# Altium integrated library Actel RTAX-S-SL.IntLib: 132 symbols (part 33 of 41)
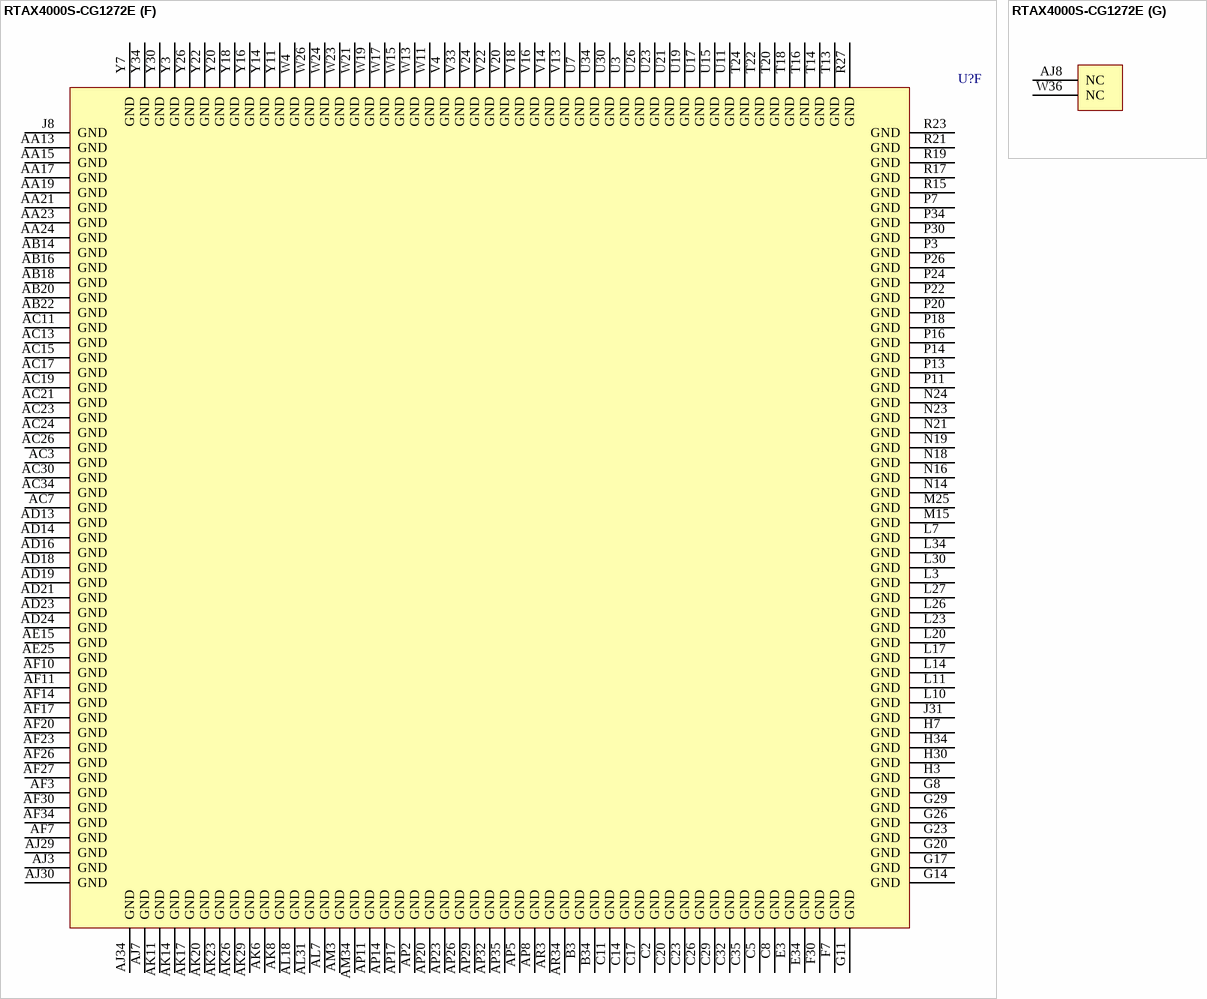
[diagram p411: symbol RTAX4000S-CG1272E]

## RTAX4000S-CG1272E
designator U?
RTAX-S RadTolerant FPGA, 4 Million Equivalent System Gates, 1272-Pin CCGA, Speed Grade Standard, E-Flow (Space Level Flow); Published: 11-Dec-2009; DatasheetVersion: v5.4, May-2009; PackageVersion: ver11.2, Nov-2009; PackageReference: CG1272; Publisher: Altium Limited; PackageDescription: 1272-Pin Ceramic Column Grid Array 1 mm Pitch; ComponentLink1Description: RTAX-S/SL RadTolerant Datasheet; ComponentLink1URL: http://www.actel.com/documents/RTAXS_DS.pdf; ComponentLink2Description: Package Mechanical Drawings; ComponentLink2URL: http://www.actel.com/documents/PckgMechDrwngs.pdf; ComponentLink3Description: RTAX-S/SL RadTolerant Documents; ComponentLink3URL: http://www.actel.com/products/milaero/rtaxs/docs.aspx; ComponentLink4Description: Actel.com Home; ComponentLink4URL: http://www.actel.com/
footprint CG1272 (CGA, 1272-Leads, Body 37.5x37.5mm, Pitch 1mm)
part A pins: A4 IO11PB0F0 (io), A5 IO11NB0F0 (io), A6 IO13PB0F1 (io), A7 IO13NB0F1 (io), A8 IO25NB0F2 (io), A9 IO25PB0F2 (io), A10 IO37PB0F3 (io), A11 IO37NB0F3 (io), A12 IO33PB0F3 (io), A13 IO33NB0F3 (io), A14 IO43NB0F4 (io), A15 IO43PB0F4 (io), A16 IO45PB0F4 (io), A17 IO45NB0F4 (io), A20 IO59PB1F6 (io), A21 IO59NB1F6 (io), A22 IO61NB1F7 (io), A23 IO61PB1F7 (io), A24 IO73PB1F8 (io), A25 IO73NB1F8 (io), A26 IO69PB1F7 (io), A27 IO69NB1F7 (io), A28 IO79NB1F8 (io), A29 IO79PB1F8 (io), A30 IO91PB1F9 (io), A31 IO91NB1F9 (io), A32 IO85PB1F9 (io), A33 IO85NB1F9 (io), B4 IO19NB0F1 (io), B6 IO05PB0F0 (io), B7 IO05NB0F0 (io), B9 IO23PB0F2 (io), B10 IO23NB0F2 (io), B12 IO29PB0F2 (io), B13 IO29NB0F2 (io), B15 IO39PB0F3 (io), B16 IO39NB0F3 (io), B18 IO49PB0F4 (io), B19 IO55NB1F6 (io), B21 IO65PB1F7 (io), B22 IO65NB1F7 (io), B24 IO77PB1F8 (io), B25 IO77NB1F8 (io), B27 IO81PB1F8 (io), B28 IO81NB1F8 (io), B30 IO99PB1F10 (io), B31 IO99NB1F10 (io), B33 IO93PB1F9 (io), C4 IO19PB0F1 (io), C6 IO07PB0F0 (io), C7 IO07NB0F0 (io), C9 IO30PB0F2 (io), C10 IO30NB0F2 (io), C12 IO21PB0F2 (io), C13 IO21NB0F2 (io), C15 IO35NB0F3 (io), C18 IO49NB0F4 (io), C19 IO55PB1F6 (io), C22 IO67PB1F7 (io), C24 IO83PB1F9 (io), C25 IO83NB1F9 (io), C27 IO74PB1F8 (io), C28 IO74NB1F8 (io), C30 IO97PB1F10 (io), C31 IO97NB1F10 (io), C33 IO93NB1F9 (io), D5 IO12PB0F1 (io), D6 IO12NB0F1 (io), D7 IO01PB0F0 (io), D8 IO01NB0F0 (io), D9 IO00PB0F0 (io), D10 IO09NB0F0 (io), D11 IO15PB0F1 (io), D12 IO15NB0F1 (io), D13 IO27PB0F2 (io), D14 IO27NB0F2 (io), D15 IO35PB0F3 (io), D17 IO51PB0F4/HCLKBP (io), D18 IO51NB0F4/HCLKBN (io), D19 IO53PB1F6/HCLKDP (io), D20 IO53NB1F6/HCLKDN (io), D22 IO67NB1F7 (io), D23 IO75PB1F8 (io), D24 IO75NB1F8 (io), D25 IO89PB1F9 (io), D26 IO89NB1F9 (io), D27 IO95PB1F10 (io), D28 IO102NB1F10 (io), D29 IO103PB1F10 (io), D30 IO103NB1F10 (io), D31 IO62PB1F7 (io), D32 IO62NB1F7 (io), E7 IO03NB0F0 (io), E8 IO03PB0F0 (io), E9 IO00NB0F0 (io), E10 IO09PB0F0 (io), E11 IO17PB0F1 (io), E12 IO17NB0F1 (io), E14 IO31PB0F2 (io), E15 IO31NB0F2 (io), E16 IO41NB0F3 (io), E17 IO47PB0F4 (io), E18 IO47NB0F4 (io), E19 IO57PB1F6 (io), E20 IO57NB1F6 (io), E21 IO63PB1F7 (io), E22 IO71PB1F7 (io), E23 IO71NB1F7 (io), E25 IO87PB1F9 (io), E26 IO87NB1F9 (io), E27 IO95NB1F10 (io), E28 IO102PB1F10 (io), E29 IO101NB1F10 (io), E30 IO101PB1F10 (io), E31 IO90NB1F9 (io), E32 IO90PB1F9 (io), F9 IO04NB0F0 (io), F10 IO08NB0F0 (io), F12 IO16NB0F1 (io), F13 IO26PB0F2 (io), F15 IO34PB0F3 (io), F16 IO41PB0F3 (io), F21 IO63NB1F7 (io), F22 IO70NB1F7 (io), F24 IO78NB1F8 (io), F25 IO86PB1F9 (io), F27 IO94PB1F10 (io), F28 IO98NB1F10 (io), G9 IO04PB0F0 (io), G10 IO08PB0F0 (io), G12 IO16PB0F1 (io), G13 IO26NB0F2 (io), G15 IO34NB0F3 (io), G16 IO44NB0F4 (io), G18 IO48NB0F4 (io), G19 IO54PB1F6 (io), G21 IO58PB1F6 (io), G22 IO70PB1F7 (io), G24 IO78PB1F8 (io), G25 IO86NB1F9 (io), G27 IO94NB1F10 (io), G28 IO98PB1F10 (io), H10 IO10PB0F0 (io), H11 IO10NB0F0 (io), H12 IO20PB0F1 (io), H13 IO20NB0F1 (io), H14 IO38PB0F3 (io), H15 IO38NB0F3 (io), H16 IO44PB0F4 (io), H17 IO42NB0F4 (io), H18 IO48PB0F4 (io), H19 IO54NB1F6 (io), H20 IO60NB1F7 (io), H21 IO58NB1F6 (io), H22 IO66PB1F7 (io), H23 IO66NB1F7 (io), H24 IO82PB1F9 (io), H25 IO82NB1F9 (io), H26 IO92PB1F9 (io), H27 IO92NB1F9 (io), J9 IO02PB0F0 (io), J10 IO02NB0F0 (io), J11 IO14PB0F1 (io), J12 IO14NB0F1 (io), J13 IO24PB0F2 (io), J14 IO24NB0F2 (io), J15 IO36PB0F3 (io), J16 IO36NB0F3 (io), J17 IO42PB0F4 (io), J18 IO50NB0F4/HCLKAN (io), J19 IO52PB1F6/HCLKCP (io), J20 IO60PB1F7 (io), J21 IO64PB1F7 (io), J22 IO64NB1F7 (io), J23 IO76PB1F8 (io), J24 IO76NB1F8 (io), J25 IO88PB1F9 (io), J26 IO88NB1F9 (io), J27 IO100PB1F10 (io), J28 IO100NB1F10 (io), K12 IO18PB0F1 (io), K13 IO18NB0F1 (io), K15 IO32NB0F2 (io), K16 IO32PB0F2 (io), K18 IO50PB0F4/HCLKAP (io), K19 IO52NB1F6/HCLKCN (io), K21 IO68PB1F7 (io), K22 IO68NB1F7 (io), K24 IO84PB1F9 (io), K25 IO84NB1F9 (io), L12 IO06PB0F0 (io), L13 IO06NB0F0 (io), L15 IO28PB0F2 (io), L16 IO28NB0F2 (io), L21 IO72PB1F8 (io), L22 IO72NB1F8 (io), L24 IO96NB1F10 (io), L25 IO96PB1F10 (io), M13 IO22PB0F2 (io), M14 IO22NB0F2 (io), M16 IO40NB0F3 (io), M17 IO40PB0F3 (io), M18 IO46NB0F4 (io), M19 IO46PB0F4 (io), M20 IO56NB1F6 (io), M21 IO56PB1F6 (io), M23 IO80PB1F8 (io), M24 IO80NB1F8 (io)
part B pins: AA25 IO165PB3F18 (io), AA26 IO165NB3F18 (io), AA27 IO173NB3F19 (io), AA28 IO173PB3F19 (io), AA29 IO169NB3F19 (io), AA30 IO169PB3F19 (io), AA31 IO167PB3F19 (io), AA32 IO167NB3F19 (io), AA33 IO166NB3F19 (io), AA34 IO168NB3F19 (io), AA35 IO168PB3F19 (io), AA36 IO160NB3F18 (io), AB25 IO177NB3F20 (io), AB26 IO177PB3F20 (io), AB28 IO179PB3F20 (io), AB29 IO179NB3F20 (io), AB30 IO171PB3F19 (io), AB31 IO171NB3F19 (io), AB32 IO170NB3F19 (io), AB33 IO170PB3F19 (io), AB34 IO174NB3F19 (io), AB35 IO174PB3F19 (io), AB36 IO164PB3F18 (io), AC25 IO181NB3F20 (io), AC28 IO183PB3F20 (io), AC29 IO183NB3F20 (io), AC32 IO178NB3F20 (io), AC33 IO178PB3F20 (io), AC36 IO164NB3F18 (io), AD25 IO181PB3F20 (io), AD26 IO185PB3F21 (io), AD27 IO193NB3F22 (io), AD28 IO193PB3F22 (io), AD29 IO187PB3F21 (io), AD30 IO187NB3F21 (io), AD31 IO189PB3F21 (io), AD32 IO189NB3F21 (io), AD33 IO186PB3F21 (io), AD34 IO184PB3F21 (io), AD35 IO182PB3F20 (io), AD36 IO172PB3F19 (io), AE26 IO185NB3F21 (io), AE27 IO197PB3F22 (io), AE28 IO197NB3F22 (io), AE29 IO195PB3F22 (io), AE30 IO195NB3F22 (io), AE31 IO191PB3F21 (io), AE32 IO191NB3F21 (io), AE33 IO186NB3F21 (io), AE34 IO184NB3F21 (io), AE35 IO182NB3F20 (io), AE36 IO172NB3F19 (io), AF28 IO201PB3F22 (io), AF29 IO201NB3F22 (io), AF32 IO194NB3F22 (io), AF33 IO194PB3F22 (io), AF36 IO176PB3F20 (io), AG28 IO208PB3F23 (io), AG29 IO208NB3F23 (io), AG30 IO203PB3F23 (io), AG31 IO203NB3F23 (io), AG32 IO202NB3F23 (io), AG33 IO202PB3F23 (io), AG34 IO200PB3F22 (io), AG35 IO188PB3F21 (io), AG36 IO176NB3F20 (io), AH30 IO199PB3F22 (io), AH31 IO199NB3F22 (io), AH32 IO209PB3F23 (io), AH33 IO206NB3F23 (io), AH34 IO200NB3F22 (io), AH35 IO188NB3F21 (io), AH36 IO180PB3F20 (io), AJ32 IO209NB3F23 (io), AJ33 IO206PB3F23 (io), AJ36 IO180NB3F20 (io), AK31 IO205PB3F23 (io), AK32 IO205NB3F23 (io), AK33 IO204PB3F23 (io), AK34 IO196NB3F22 (io), AK35 IO190NB3F21 (io), AK36 IO190PB3F21 (io), AL33 IO204NB3F23 (io), AL34 IO196PB3F22 (io), AL35 IO175NB3F20 (io), AL36 IO175PB3F20 (io), AM33 IO198PB3F22 (io), AM36 IO192PB3F21 (io), AN33 IO198NB3F22 (io), AN34 IO207NB3F23 (io), AN35 IO207PB3F23 (io), AN36 IO192NB3F21 (io), D33 IO118PB2F13 (io), D34 IO105PB2F12 (io), D35 IO105NB2F12 (io), D36 IO120PB2F13 (io), E33 IO118NB2F13 (io), E36 IO120NB2F13 (io), F33 IO107PB2F12 (io), F34 IO107NB2F12 (io), F35 IO135NB2F15 (io), F36 IO135PB2F15 (io), G32 IO108PB2F12 (io), G33 IO108NB2F12 (io), G34 IO116PB2F13 (io), G35 IO116NB2F13 (io), G36 IO126PB2F14 (io), H32 IO115NB2F13 (io), H33 IO106NB2F12 (io), H36 IO126NB2F14 (io), J32 IO115PB2F13 (io), J33 IO106PB2F12 (io), J34 IO112PB2F13 (io), J35 IO124PB2F14 (io), J36 IO132PB2F15 (io), K28 IO114NB2F13 (io), K29 IO114PB2F13 (io), K30 IO111PB2F12 (io), K31 IO111NB2F12 (io), K32 IO110PB2F12 (io), K33 IO110NB2F12 (io), K34 IO112NB2F13 (io), K35 IO124NB2F14 (io), K36 IO132NB2F15 (io), L28 IO104PB2F12 (io), L29 IO104NB2F12 (io), L32 IO122PB2F14 (io), L33 IO122NB2F14 (io), L36 IO136PB2F15 (io), M26 IO113PB2F13 (io), M27 IO109PB2F12 (io), M28 IO109NB2F12 (io), M29 IO117NB2F13 (io), M30 IO117PB2F13 (io), M31 IO119PB2F13 (io), M32 IO119NB2F13 (io), M33 IO130PB2F15 (io), M34 IO128PB2F14 (io), M35 IO134PB2F15 (io), M36 IO136NB2F15 (io), N25 IO125PB2F14 (io), N26 IO113NB2F13 (io), N27 IO121PB2F14 (io), N28 IO121NB2F14 (io), N29 IO123PB2F14 (io), N30 IO123NB2F14 (io), N31 IO127PB2F14 (io), N32 IO127NB2F14 (io), N33 IO130NB2F15 (io), N34 IO128NB2F14 (io), N35 IO134NB2F15 (io), N36 IO140PB2F16 (io), P25 IO125NB2F14 (io), P28 IO129PB2F14 (io), P29 IO129NB2F14 (io), P32 IO138PB2F15 (io), P33 IO138NB2F15 (io), P36 IO140NB2F16 (io), R25 IO131PB2F15 (io), R26 IO131NB2F15 (io), R28 IO133PB2F15 (io), R29 IO133NB2F15 (io), R30 IO139PB2F16 (io), R31 IO139NB2F16 (io), R32 IO146PB2F16 (io), R33 IO146NB2F16 (io), R34 IO142PB2F16 (io), R35 IO142NB2F16 (io), R36 IO148PB2F17 (io), T25 IO137PB2F15 (io), T26 IO137NB2F15 (io), T27 IO141PB2F16 (io), T28 IO141NB2F16 (io), T29 IO145PB2F16 (io), T30 IO145NB2F16 (io), T31 IO143PB2F16 (io), T32 IO143NB2F16 (io), T33 IO150PB2F17 (io), T34 IO144PB2F16 (io), T35 IO144NB2F16 (io), T36 IO148NB2F17 (io), U25 IO147PB2F16 (io), U28 IO149PB2F17 (io), U29 IO149NB2F17 (io), U32 IO154PB2F17 (io), U33 IO150NB2F17 (io), U36 IO152PB2F17 (io), V25 IO147NB2F16 (io), V27 IO155NB2F17 (io), V28 IO155PB2F17 (io), V29 IO157PB3F18 (io), V30 IO153PB2F17 (io), V31 IO153NB2F17 (io), V32 IO154NB2F17 (io), V34 IO156PB2F17 (io), V35 IO158PB3F18 (io), V36 IO152NB2F17 (io), W25 IO151NB2F17 (io), W27 IO161NB3F18 (io), W28 IO161PB3F18 (io), W29 IO157NB3F18 (io), W30 IO159NB3F18 (io), W31 IO159PB3F18 (io), W32 IO162PB3F18 (io), W34 IO156NB2F17 (io), W35 IO158NB3F18 (io), Y25 IO151PB2F17 (io), Y28 IO163NB3F18 (io), Y29 IO163PB3F18 (io), Y32 IO162NB3F18 (io), Y33 IO166PB3F19 (io), Y36 IO160PB3F18 (io)
part C pins: AE13 IO282NB5F32 (io), AE14 IO282PB5F32 (io), AE16 IO266PB5F30 (io), AE17 IO266NB5F30 (io), AE18 IO256NB4F28 (io), AE19 IO256PB4F28 (io), AE20 IO250PB4F27 (io), AE21 IO250NB4F27 (io), AE23 IO232NB4F26 (io), AE24 IO232PB4F26 (io), AF12 IO296PB5F33 (io), AF13 IO294PB5F33 (io), AF15 IO270PB5F30 (io), AF16 IO270NB5F30 (io), AF21 IO238NB4F26 (io), AF22 IO238PB4F26 (io), AF24 IO216NB4F24 (io), AF25 IO216PB4F24 (io), AG8 IO312PB5F34 (io), AG9 IO312NB5F34 (io), AG12 IO296NB5F33 (io), AG13 IO294NB5F33 (io), AG15 IO278NB5F31 (io), AG16 IO278PB5F31 (io), AG18 IO262NB5F30/CLKGN (io), AG19 IO260PB4F28/CLKEP (io), AG21 IO242NB4F27 (io), AG22 IO242PB4F27 (io), AG24 IO228PB4F25 (io), AG25 IO228NB4F25 (io), AH9 IO310NB5F34 (io), AH10 IO310PB5F34 (io), AH11 IO302NB5F34 (io), AH12 IO302PB5F34 (io), AH13 IO290NB5F32 (io), AH14 IO290PB5F32 (io), AH15 IO274NB5F31 (io), AH16 IO274PB5F31 (io), AH17 IO272NB5F31 (io), AH18 IO262PB5F30/CLKGP (io), AH19 IO260NB4F28/CLKEN (io), AH20 IO252NB4F27 (io), AH21 IO246NB4F27 (io), AH22 IO246PB4F27 (io), AH23 IO234NB4F26 (io), AH24 IO234PB4F26 (io), AH25 IO224NB4F25 (io), AH26 IO224PB4F25 (io), AH27 IO212NB4F24 (io), AH28 IO212PB4F24 (io), AJ10 IO304NB5F34 (io), AJ11 IO304PB5F34 (io), AJ12 IO292NB5F32 (io), AJ13 IO292PB5F32 (io), AJ14 IO276NB5F31 (io), AJ15 IO276PB5F31 (io), AJ16 IO268NB5F30 (io), AJ17 IO272PB5F31 (io), AJ18 IO264NB5F30 (io), AJ19 IO258PB4F28 (io), AJ20 IO252PB4F27 (io), AJ21 IO254PB4F28 (io), AJ22 IO248NB4F27 (io), AJ23 IO248PB4F27 (io), AJ24 IO230NB4F25 (io), AJ25 IO230PB4F25 (io), AJ26 IO220NB4F25 (io), AJ27 IO220PB4F25 (io), AK9 IO308NB5F34 (io), AK10 IO306NB5F34 (io), AK12 IO298NB5F33 (io), AK13 IO288PB5F32 (io), AK15 IO280PB5F31 (io), AK16 IO268PB5F30 (io), AK18 IO264PB5F30 (io), AK19 IO258NB4F28 (io), AK21 IO254NB4F28 (io), AK22 IO244NB4F27 (io), AK24 IO236NB4F26 (io), AK25 IO226PB4F25 (io), AK27 IO218PB4F24 (io), AK28 IO214PB4F24 (io), AL9 IO308PB5F34 (io), AL10 IO306PB5F34 (io), AL12 IO298PB5F33 (io), AL13 IO288NB5F32 (io), AL15 IO280NB5F31 (io), AL16 IO273NB5F31 (io), AL21 IO251PB4F27 (io), AL22 IO244PB4F27 (io), AL24 IO236PB4F26 (io), AL25 IO226NB4F25 (io), AL27 IO218NB4F24 (io), AL28 IO214NB4F24 (io), AM7 IO311PB5F34 (io), AM8 IO311NB5F34 (io), AM9 IO286PB5F32 (io), AM10 IO305NB5F34 (io), AM11 IO297NB5F33 (io), AM12 IO297PB5F33 (io), AM14 IO281NB5F32 (io), AM15 IO281PB5F32 (io), AM16 IO273PB5F31 (io), AM17 IO267NB5F30 (io), AM18 IO267PB5F30 (io), AM19 IO257NB4F28 (io), AM20 IO257PB4F28 (io), AM21 IO251NB4F27 (io), AM22 IO243NB4F27 (io), AM23 IO243PB4F27 (io), AM25 IO227NB4F25 (io), AM26 IO227PB4F25 (io), AM27 IO219PB4F24 (io), AM28 IO210NB4F24 (io), AM29 IO213PB4F24 (io), AM30 IO213NB4F24 (io), AN5 IO300NB5F33 (io), AN6 IO300PB5F33 (io), AN7 IO313NB5F34 (io), AN8 IO313PB5F34 (io), AN9 IO286NB5F32 (io), AN10 IO305PB5F34 (io), AN11 IO299NB5F33 (io), AN12 IO299PB5F33 (io), AN13 IO285NB5F32 (io), AN14 IO285PB5F32 (io), AN15 IO277NB5F31 (io), AN17 IO263NB5F30/CLKHN (io), AN18 IO263PB5F30/CLKHP (io), AN19 IO261NB4F28/CLKFN (io), AN20 IO261PB4F28/CLKFP (io), AN22 IO247PB4F27 (io), AN23 IO241NB4F26 (io), AN24 IO241PB4F26 (io), AN25 IO225NB4F25 (io), AN26 IO225PB4F25 (io), AN27 IO219NB4F24 (io), AN28 IO210PB4F24 (io), AN29 IO211NB4F24 (io), AN30 IO211PB4F24 (io), AN31 IO222NB4F25 (io), AN32 IO222PB4F25 (io), AP4 IO295NB5F33 (io), AP6 IO307NB5F34 (io), AP7 IO307PB5F34 (io), AP9 IO284NB5F32 (io), AP10 IO284PB5F32 (io), AP12 IO293NB5F33 (io), AP13 IO293PB5F33 (io), AP15 IO277PB5F31 (io), AP18 IO265PB5F30 (io), AP19 IO259NB4F28 (io), AP22 IO247NB4F27 (io), AP24 IO239NB4F26 (io), AP25 IO239PB4F26 (io), AP27 IO240NB4F26 (io), AP28 IO240PB4F26 (io), AP30 IO217NB4F24 (io), AP31 IO217PB4F24 (io), AP33 IO229PB4F25 (io), AR4 IO295PB5F33 (io), AR6 IO309NB5F34 (io), AR7 IO309PB5F34 (io), AR9 IO291NB5F32 (io), AR10 IO291PB5F32 (io), AR12 IO287NB5F32 (io), AR13 IO287PB5F32 (io), AR15 IO275NB5F31 (io), AR16 IO275PB5F31 (io), AR18 IO265NB5F30 (io), AR19 IO259PB4F28 (io), AR21 IO249NB4F27 (io), AR22 IO249PB4F27 (io), AR24 IO237NB4F26 (io), AR25 IO237PB4F26 (io), AR27 IO233NB4F26 (io), AR28 IO233PB4F26 (io), AR30 IO215NB4F24 (io), AR31 IO215PB4F24 (io), AR33 IO229NB4F25 (io), AT4 IO303NB5F34 (io), AT5 IO303PB5F34 (io), AT6 IO301NB5F33 (io), AT7 IO301PB5F33 (io), AT8 IO289PB5F32 (io), AT9 IO289NB5F32 (io), AT10 IO279NB5F31 (io), AT11 IO279PB5F31 (io), AT12 IO283NB5F32 (io), AT13 IO283PB5F32 (io), AT14 IO271PB5F30 (io), AT15 IO271NB5F30 (io), AT16 IO269NB5F30 (io), AT17 IO269PB5F30 (io), AT20 IO255NB4F28 (io), AT21 IO255PB4F28 (io), AT22 IO253PB4F27 (io), AT23 IO253NB4F27 (io), AT24 IO245NB4F27 (io), AT25 IO245PB4F27 (io), AT26 IO231NB4F25 (io), AT27 IO231PB4F25 (io), AT28 IO235PB4F26 (io), AT29 IO235NB4F26 (io), AT30 IO223NB4F25 (io), AT31 IO223PB4F25 (io), AT32 IO221NB4F25 (io), AT33 IO221PB4F25 (io)
part D pins: AA1 IO358NB6F41 (io), AA2 IO354NB6F40 (io), AA3 IO354PB6F40 (io), AA4 IO360PB6F41 (io), AA5 IO355NB6F40 (io), AA6 IO355PB6F40 (io), AA7 IO353NB6F40 (io), AA8 IO353PB6F40 (io), AA9 IO351NB6F40 (io), AA10 IO351PB6F40 (io), AA11 IO345NB6F39 (io), AA12 IO343NB6F39 (io), AB1 IO358PB6F41 (io), AB2 IO352NB6F40 (io), AB3 IO352PB6F40 (io), AB4 IO356NB6F40 (io), AB5 IO356PB6F40 (io), AB6 IO349NB6F40 (io), AB7 IO349PB6F40 (io), AB8 IO341NB6F39 (io), AB9 IO341PB6F39 (io), AB11 IO345PB6F39 (io), AB12 IO343PB6F39 (io), AC1 IO350NB6F40 (io), AC4 IO348NB6F39 (io), AC5 IO348PB6F39 (io), AC8 IO337NB6F38 (io), AC9 IO337PB6F38 (io), AC12 IO335NB6F38 (io), AD1 IO350PB6F40 (io), AD2 IO344NB6F39 (io), AD3 IO338NB6F38 (io), AD4 IO340NB6F39 (io), AD5 IO339NB6F38 (io), AD6 IO339PB6F38 (io), AD7 IO333PB6F38 (io), AD8 IO333NB6F38 (io), AD9 IO329NB6F37 (io), AD10 IO329PB6F37 (io), AD11 IO321PB6F36 (io), AD12 IO335PB6F38 (io), AE1 IO346NB6F39 (io), AE2 IO344PB6F39 (io), AE3 IO338PB6F38 (io), AE4 IO340PB6F39 (io), AE5 IO331NB6F38 (io), AE6 IO331PB6F38 (io), AE7 IO327NB6F37 (io), AE8 IO327PB6F37 (io), AE9 IO319PB6F36 (io), AE10 IO319NB6F36 (io), AE11 IO321NB6F36 (io), AF1 IO346PB6F39 (io), AF4 IO332NB6F38 (io), AF5 IO332PB6F38 (io), AF8 IO314NB6F36 (io), AF9 IO314PB6F36 (io), AG1 IO342NB6F39 (io), AG2 IO334NB6F38 (io), AG3 IO322NB6F37 (io), AG4 IO320NB6F36 (io), AG5 IO320PB6F36 (io), AG6 IO323PB6F37 (io), AG7 IO323NB6F37 (io), AH1 IO342PB6F39 (io), AH2 IO334PB6F38 (io), AH3 IO322PB6F37 (io), AH4 IO316NB6F36 (io), AH5 IO325PB6F37 (io), AH6 IO324PB6F37 (io), AH7 IO324NB6F37 (io), AJ1 IO336NB6F38 (io), AJ4 IO316PB6F36 (io), AJ5 IO325NB6F37 (io), AK1 IO336PB6F38 (io), AK2 IO326NB6F37 (io), AK3 IO326PB6F37 (io), AK4 IO318NB6F36 (io), AK5 IO318PB6F36 (io), AL1 IO347NB6F39 (io), AL2 IO347PB6F39 (io), AL3 IO317NB6F36 (io), AL4 IO317PB6F36 (io), AM1 IO330NB6F37 (io), AM4 IO328NB6F37 (io), AN1 IO330PB6F37 (io), AN2 IO315NB6F36 (io), AN3 IO315PB6F36 (io), AN4 IO328PB6F37 (io), D1 IO417PB7F47 (io), D2 IO417NB7F47 (io), D3 IO408PB7F46 (io), D4 IO408NB7F46 (io), E1 IO402NB7F45 (io), E4 IO414NB7F47 (io), F1 IO402PB7F45 (io), F2 IO387PB7F44 (io), F3 IO406PB7F46 (io), F4 IO414PB7F47 (io), G1 IO400NB7F45 (io), G2 IO387NB7F44 (io), G3 IO406NB7F46 (io), G4 IO415NB7F47 (io), G5 IO415PB7F47 (io), H1 IO400PB7F45 (io), H4 IO416NB7F47 (io), H5 IO419NB7F47 (io), J1 IO390NB7F44 (io), J2 IO398NB7F45 (io), J3 IO410NB7F46 (io), J4 IO416PB7F47 (io), J5 IO419PB7F47 (io), J6 IO409PB7F46 (io), J7 IO409NB7F46 (io), K1 IO390PB7F44 (io), K2 IO398PB7F45 (io), K3 IO410PB7F46 (io), K4 IO412PB7F47 (io), K5 IO412NB7F47 (io), K6 IO413PB7F47 (io), K7 IO413NB7F47 (io), K8 IO418NB7F47 (io), K9 IO418PB7F47 (io), L1 IO386NB7F44 (io), L4 IO404PB7F46 (io), L5 IO404NB7F46 (io), L8 IO411NB7F46 (io), L9 IO411PB7F46 (io), M1 IO386PB7F44 (io), M2 IO392NB7F44 (io), M3 IO394NB7F45 (io), M4 IO396NB7F45 (io), M5 IO401NB7F45 (io), M6 IO401PB7F45 (io), M7 IO405NB7F46 (io), M8 IO405PB7F46 (io), M9 IO407PB7F46 (io), M10 IO407NB7F46 (io), M11 IO395NB7F45 (io), N1 IO382NB7F43 (io), N2 IO392PB7F44 (io), N3 IO394PB7F45 (io), N4 IO396PB7F45 (io), N5 IO397NB7F45 (io), N6 IO397PB7F45 (io), N7 IO399PB7F45 (io), N8 IO399NB7F45 (io), N9 IO403PB7F46 (io), N10 IO403NB7F46 (io), N11 IO395PB7F45 (io), N12 IO391NB7F44 (io), P1 IO382PB7F43 (io), P4 IO388PB7F44 (io), P5 IO388NB7F44 (io), P8 IO393PB7F44 (io), P9 IO393NB7F44 (io), P12 IO391PB7F44 (io), R1 IO374NB7F42 (io), R2 IO384PB7F43 (io), R3 IO384NB7F43 (io), R4 IO380PB7F43 (io), R5 IO380NB7F43 (io), R6 IO381NB7F43 (io), R7 IO381PB7F43 (io), R8 IO389NB7F44 (io), R9 IO389PB7F44 (io), R11 IO385PB7F44 (io), R12 IO385NB7F44 (io), T1 IO374PB7F42 (io), T2 IO378PB7F43 (io), T3 IO378NB7F43 (io), T4 IO376NB7F43 (io), T5 IO379NB7F43 (io), T6 IO379PB7F43 (io), T7 IO377PB7F43 (io), T8 IO377NB7F43 (io), T9 IO383PB7F43 (io), T10 IO383NB7F43 (io), T11 IO375NB7F42 (io), T12 IO375PB7F42 (io), U1 IO370NB7F42 (io), U4 IO376PB7F43 (io), U5 IO372NB7F42 (io), U8 IO373PB7F42 (io), U9 IO373NB7F42 (io), U12 IO361NB6F41 (io), V1 IO370PB7F42 (io), V2 IO366NB6F41 (io), V3 IO368NB7F42 (io), V5 IO372PB7F42 (io), V6 IO371PB7F42 (io), V7 IO371NB7F42 (io), V8 IO367NB7F42 (io), V9 IO369NB7F42 (io), V10 IO369PB7F42 (io), V12 IO361PB6F41 (io), W1 IO362NB6F41 (io), W2 IO366PB6F41 (io), W3 IO368PB7F42 (io), W5 IO364NB6F41 (io), W6 IO363NB6F41 (io), W7 IO363PB6F41 (io), W8 IO367PB7F42 (io), W9 IO365PB6F41 (io), W10 IO365NB6F41 (io), W12 IO357NB6F40 (io), Y1 IO362PB6F41 (io), Y4 IO360NB6F41 (io), Y5 IO364PB6F41 (io), Y8 IO359NB6F41 (io), Y9 IO359PB6F41 (io), Y12 IO357PB6F40 (io)
part E pins: A18 PRB (out), A19 VCCA (power), AA14 VCCA (power), AA16 VCCA (power), AA18 VCCA (power), AA20 VCCA (power), AA22 VCCA (power), AB10 VCCDA (power), AB13 VCCIB6 (power), AB15 VCCA (power), AB17 VCCA (power), AB19 VCCA (power), AB21 VCCA (power), AB23 VCCA (power), AB24 VCCIB3 (power), AB27 VCCDA (power), AC2 VCCIB6 (power), AC6 VCCIB6 (power), AC10 VCCIB6 (power), AC14 VCCA (power), AC16 VCCA (power), AC18 VCCA (power), AC20 VCCA (power), AC22 VCCA (power), AC27 VCCIB3 (power), AC31 VCCIB3 (power), AC35 VCCIB3 (power), AD15 VCCIB5 (power), AD17 VCCIB5 (power), AD20 VCCIB4 (power), AD22 VCCIB4 (power), AE12 VCCA (power), AE22 VCCDA (power), AF2 VCCIB6 (power), AF6 VCCIB6 (power), AF18 VCCDA (power), AF19 VCCDA (power), AF31 VCCIB3 (power), AF35 VCCIB3 (power), AG10 VCCIB6 (power), AG11 VCCIB5 (power), AG14 VCCIB5 (power), AG17 VCCIB5 (power), AG20 VCCIB4 (power), AG23 VCCIB4 (power), AG26 VCCIB4 (power), AG27 VCCIB3 (power), AH8 VCCDA (power), AH29 VCCDA (power), AJ2 VCCIB6 (power), AJ6 VCCIB6 (power), AJ9 VCCDA (power), AJ28 VCCDA (power), AJ31 VCCIB3 (power), AJ35 VCCIB3 (power), AK7 VCCDA (power), AK30 VCCDA (power), AL5 VCCA (power), AL6 VCCDA (power), AL8 VCCIB5 (power), AL11 VCCIB5 (power), AL14 VCCIB5 (power), AL17 VCCIB5 (power), AL19 PRC (out), AL20 VCCIB4 (power), AL23 VCCIB4 (power), AL26 VCCIB4 (power), AL29 VCCIB4 (power), AL30 VCCDA (power), AL32 VCCA (power), AM2 VCCIB6 (power), AM5 VCCDA (power), AM6 VCCDA (power), AM13 VCCDA (power), AM24 VCCDA (power), AM31 VCCDA (power), AM32 VCCDA (power), AM35 VCCIB3 (power), AN16 VCCDA (power), AN21 VCCDA (power), AP3 VCCA (power), AP16 VCCDA (power), AP21 VCCDA (power), AP34 VCCA (power), AR5 VCCIB5 (power), AR8 VCCIB5 (power), AR11 VCCIB5 (power), AR14 VCCIB5 (power), AR17 VCCIB5 (power), AR20 VCCIB4 (power), AR23 VCCIB4 (power), AR26 VCCIB4 (power), AR29 VCCIB4 (power), AR32 VCCIB4 (power), AT18 VCCA (power), AT19 PRD (out), B5 VCCIB0 (power), B8 VCCIB0 (power), B11 VCCIB0 (power), B14 VCCIB0 (power), B17 VCCIB0 (power), B20 VCCIB1 (power), B23 VCCIB1 (power), B26 VCCIB1 (power), B29 VCCIB1 (power), B32 VCCIB1 (power), C3 VCCA (power), C16 VCCDA (power), C21 VCCDA (power), C34 VCCA (power), D16 VCCDA (power), D21 VCCDA (power), E2 VCCIB7 (power), E5 VCCDA (power), E6 VCCDA (power), E13 VCCDA (power), E24 VCCDA (power), E35 VCCIB2 (power), F5 TMS (in), F6 TDI (in), F8 VCCIB0 (power), F11 VCCIB0 (power), F14 VCCIB0 (power), F17 VCCIB0 (power), F18 PRA (out), F19 VCCDA (power), F20 VCCIB1 (power), F23 VCCIB1 (power), F26 VCCIB1 (power), F29 VCCIB1 (power), F31 VCCDA (power), F32 VPUMP (power), G6 VCCDA (power), G7 TRST (in), G30 VCCDA (power), G31 VCCDA (power), H2 VCCIB7 (power), H6 VCCIB7 (power), H8 TCK (in), H9 TDO (hiz), H28 VCCDA (power), H29 VCCDA (power), H31 VCCIB2 (power), H35 VCCIB2 (power), J29 VCCDA (power), J30 VCCA (power), K10 VCCIB7 (power), K11 VCCIB0 (power), K14 VCCIB0 (power), K17 VCCIB0 (power), K20 VCCIB1 (power), K23 VCCIB1 (power), K26 VCCIB1 (power), K27 VCCIB2 (power), L2 VCCIB7 (power), L6 VCCIB7 (power), L18 VCCDA (power), L19 VCCDA (power), L31 VCCIB2 (power), L35 VCCIB2 (power), M12 VCCA (power), M22 VCCDA (power), N13 VCCDA (power), N15 VCCIB0 (power), N17 VCCIB0 (power), N20 VCCIB1 (power), N22 VCCIB1 (power), P2 VCCIB7 (power), P6 VCCIB7 (power), P10 VCCIB7 (power), P15 VCCA (power), P17 VCCA (power), P19 VCCA (power), P21 VCCA (power), P23 VCCA (power), P27 VCCIB2 (power), P31 VCCIB2 (power), P35 VCCIB2 (power), R10 VCCDA (power), R13 VCCIB7 (power), R14 VCCA (power), R16 VCCA (power), R18 VCCA (power), R20 VCCA (power), R22 VCCA (power), R24 VCCIB2 (power), T15 VCCA (power), T17 VCCA (power), T19 VCCA (power), T21 VCCA (power), T23 VCCA (power), U2 VCCIB7 (power), U6 VCCIB7 (power), U10 VCCIB7 (power), U13 VCCIB7 (power), U14 VCCA (power), U16 VCCA (power), U18 VCCA (power), U20 VCCA (power), U22 VCCA (power), U24 VCCIB2 (power), U27 VCCIB2 (power), U31 VCCIB2 (power), U35 VCCIB2 (power), V11 VCCDA (power), V15 VCCA (power), V17 VCCA (power), V19 VCCA (power), V21 VCCA (power), V23 VCCA (power), V26 VCCDA (power), W14 VCCA (power), W16 VCCA (power), W18 VCCA (power), W20 VCCA (power), W22 VCCA (power), W33 VCCA (power), Y2 VCCIB6 (power), Y6 VCCIB6 (power), Y10 VCCIB6 (power), Y13 VCCIB6 (power), Y15 VCCA (power), Y17 VCCA (power), Y19 VCCA (power), Y21 VCCA (power), Y23 VCCA (power), Y24 VCCIB3 (power), Y27 VCCIB3 (power), Y31 VCCIB3 (power), Y35 VCCIB3 (power)
part F pins: AA13 GND (power), AA15 GND (power), AA17 GND (power), AA19 GND (power), AA21 GND (power), AA23 GND (power), AA24 GND (power), AB14 GND (power), AB16 GND (power), AB18 GND (power), AB20 GND (power), AB22 GND (power), AC3 GND (power), AC7 GND (power), AC11 GND (power), AC13 GND (power), AC15 GND (power), AC17 GND (power), AC19 GND (power), AC21 GND (power), AC23 GND (power), AC24 GND (power), AC26 GND (power), AC30 GND (power), AC34 GND (power), AD13 GND (power), AD14 GND (power), AD16 GND (power), AD18 GND (power), AD19 GND (power), AD21 GND (power), AD23 GND (power), AD24 GND (power), AE15 GND (power), AE25 GND (power), AF3 GND (power), AF7 GND (power), AF10 GND (power), AF11 GND (power), AF14 GND (power), AF17 GND (power), AF20 GND (power), AF23 GND (power), AF26 GND (power), AF27 GND (power), AF30 GND (power), AF34 GND (power), AJ3 GND (power), AJ7 GND (power), AJ29 GND (power), AJ30 GND (power), AJ34 GND (power), AK6 GND (power), AK8 GND (power), AK11 GND (power), AK14 GND (power), AK17 GND (power), AK20 GND (power), AK23 GND (power), AK26 GND (power), AK29 GND (power), AL7 GND (power), AL18 GND (power), AL31 GND (power), AM3 GND (power), AM34 GND (power), AP2 GND (power), AP5 GND (power), AP8 GND (power), AP11 GND (power), AP14 GND (power), AP17 GND (power), AP20 GND (power), AP23 GND (power), AP26 GND (power), AP29 GND (power), AP32 GND (power), AP35 GND (power), AR3 GND (power), AR34 GND (power), B3 GND (power), B34 GND (power), C2 GND (power), C5 GND (power), C8 GND (power), C11 GND (power), C14 GND (power), C17 GND (power), C20 GND (power), C23 GND (power), C26 GND (power), C29 GND (power), C32 GND (power), C35 GND (power), E3 GND (power), E34 GND (power), F7 GND (power), F30 GND (power), G8 GND (power), G11 GND (power), G14 GND (power), G17 GND (power), G20 GND (power), G23 GND (power), G26 GND (power), G29 GND (power), H3 GND (power), H7 GND (power), H30 GND (power), H34 GND (power), J8 GND (power), J31 GND (power), L3 GND (power), L7 GND (power), L10 GND (power), L11 GND (power), L14 GND (power), L17 GND (power), L20 GND (power), L23 GND (power), L26 GND (power), L27 GND (power), L30 GND (power), L34 GND (power), M15 GND (power), M25 GND (power), N14 GND (power), N16 GND (power), N18 GND (power), N19 GND (power), N21 GND (power), N23 GND (power), N24 GND (power), P3 GND (power), P7 GND (power), P11 GND (power), P13 GND (power), P14 GND (power), P16 GND (power), P18 GND (power), P20 GND (power), P22 GND (power), P24 GND (power), P26 GND (power), P30 GND (power), P34 GND (power), R15 GND (power), R17 GND (power), R19 GND (power), R21 GND (power), R23 GND (power), R27 GND (power), T13 GND (power), T14 GND (power), T16 GND (power), T18 GND (power), T20 GND (power), T22 GND (power), T24 GND (power), U3 GND (power), U7 GND (power), U11 GND (power), U15 GND (power), U17 GND (power), U19 GND (power), U21 GND (power), U23 GND (power), U26 GND (power), U30 GND (power), U34 GND (power), V4 GND (power), V13 GND (power), V14 GND (power), V16 GND (power), V18 GND (power), V20 GND (power), V22 GND (power), V24 GND (power), V33 GND (power), W4 GND (power), W11 GND (power), W13 GND (power), W15 GND (power), W17 GND (power), W19 GND (power), W21 GND (power), W23 GND (power), W24 GND (power), W26 GND (power), Y3 GND (power), Y7 GND (power), Y11 GND (power), Y14 GND (power), Y16 GND (power), Y18 GND (power), Y20 GND (power), Y22 GND (power), Y26 GND (power), Y30 GND (power), Y34 GND (power)
part G pins: AJ8 NC, W36 NC
part A text: Bank 1; Bank 0
part B text: Bank 3; Bank 2
part C text: Bank 5; Bank 4
part D text: Bank 7; Bank 6

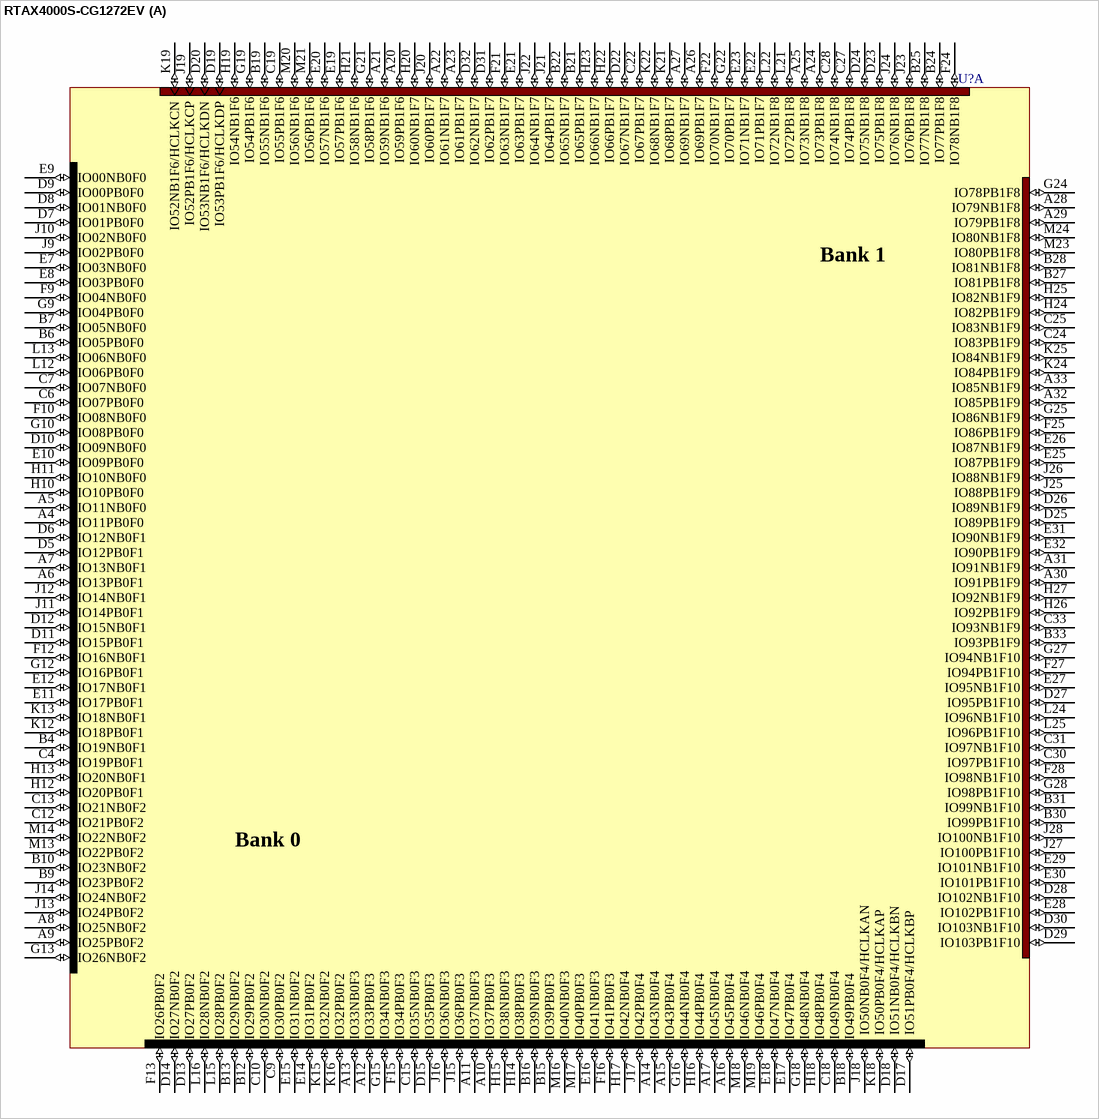
[diagram p311: symbol RTAX4000S-CG1272EV]

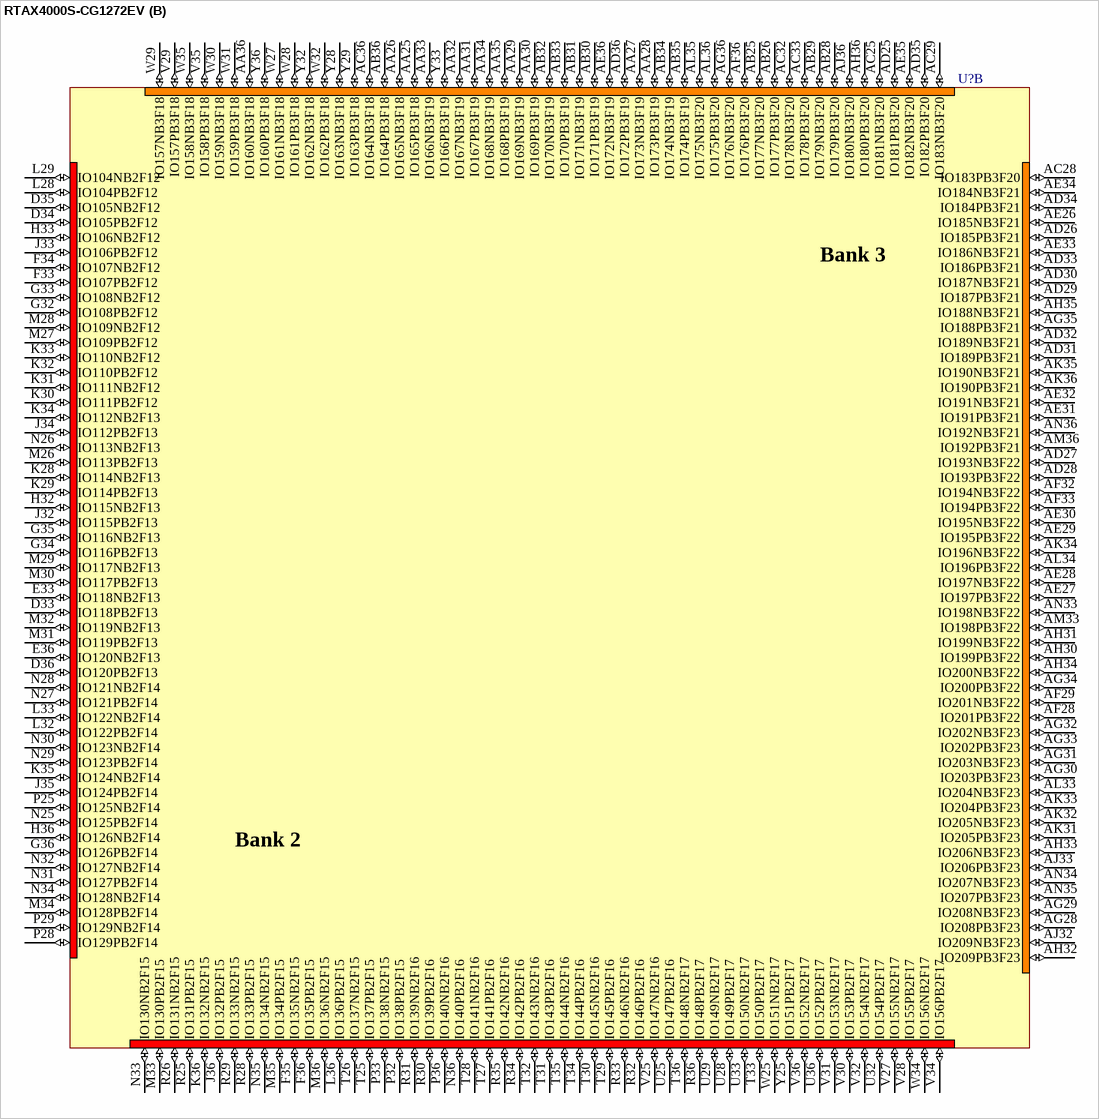
[diagram p312: symbol RTAX4000S-CG1272EV]

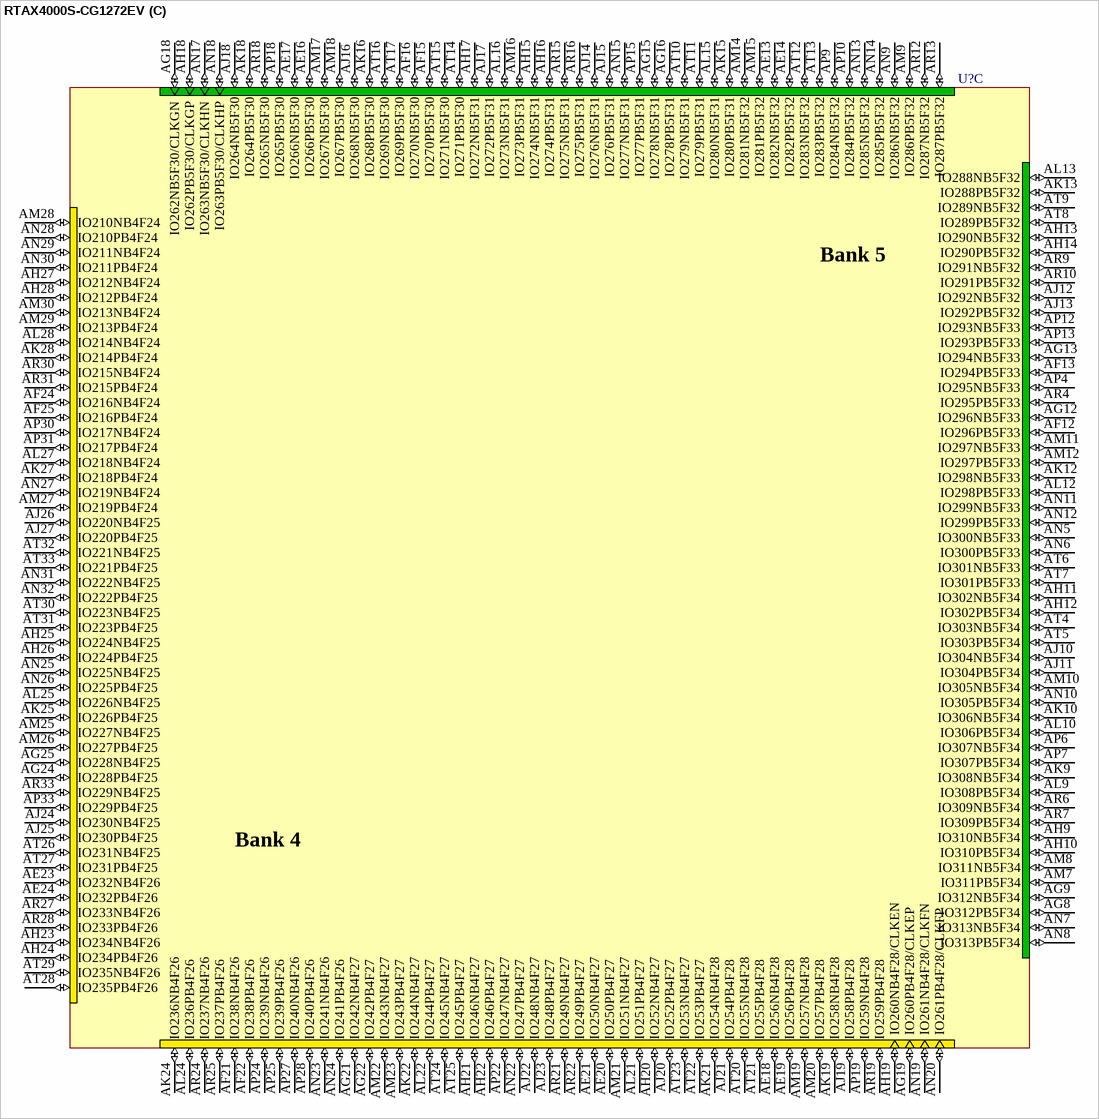
[diagram p313: symbol RTAX4000S-CG1272EV]

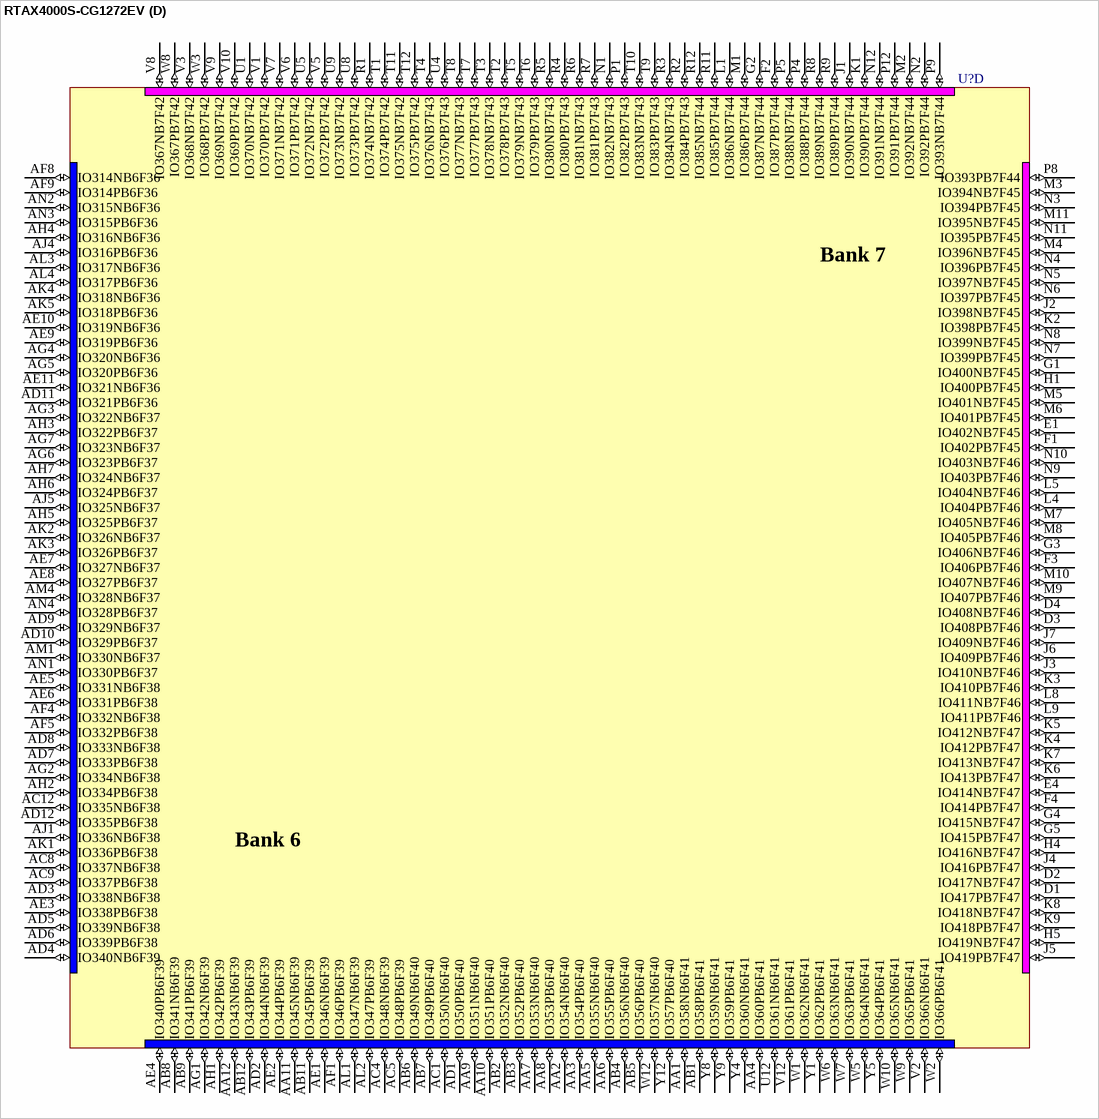
[diagram p314: symbol RTAX4000S-CG1272EV]

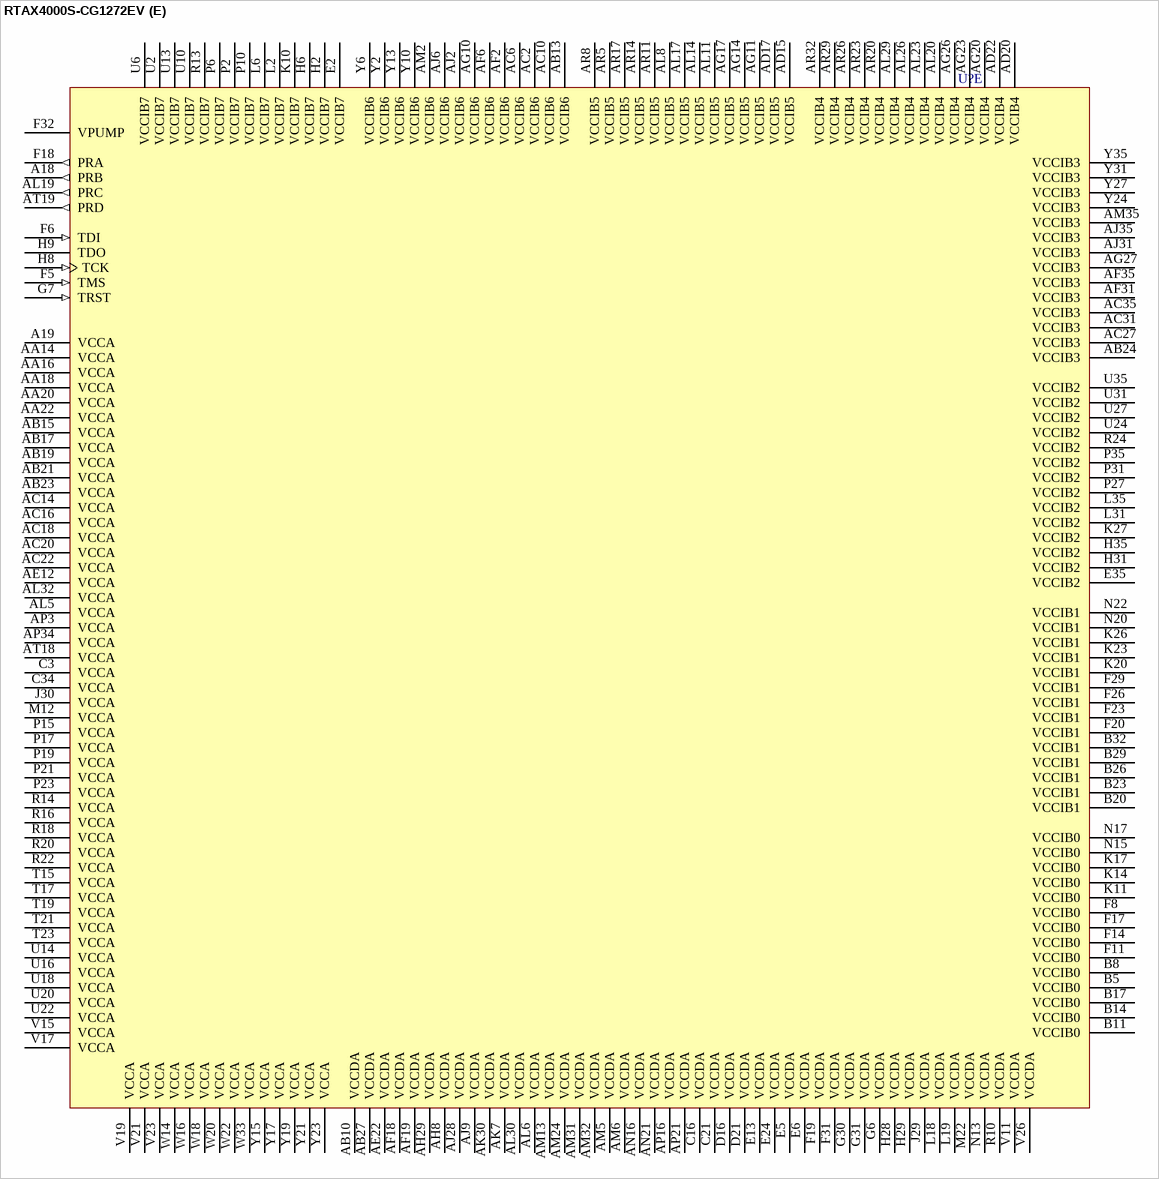
[diagram p315: symbol RTAX4000S-CG1272EV]

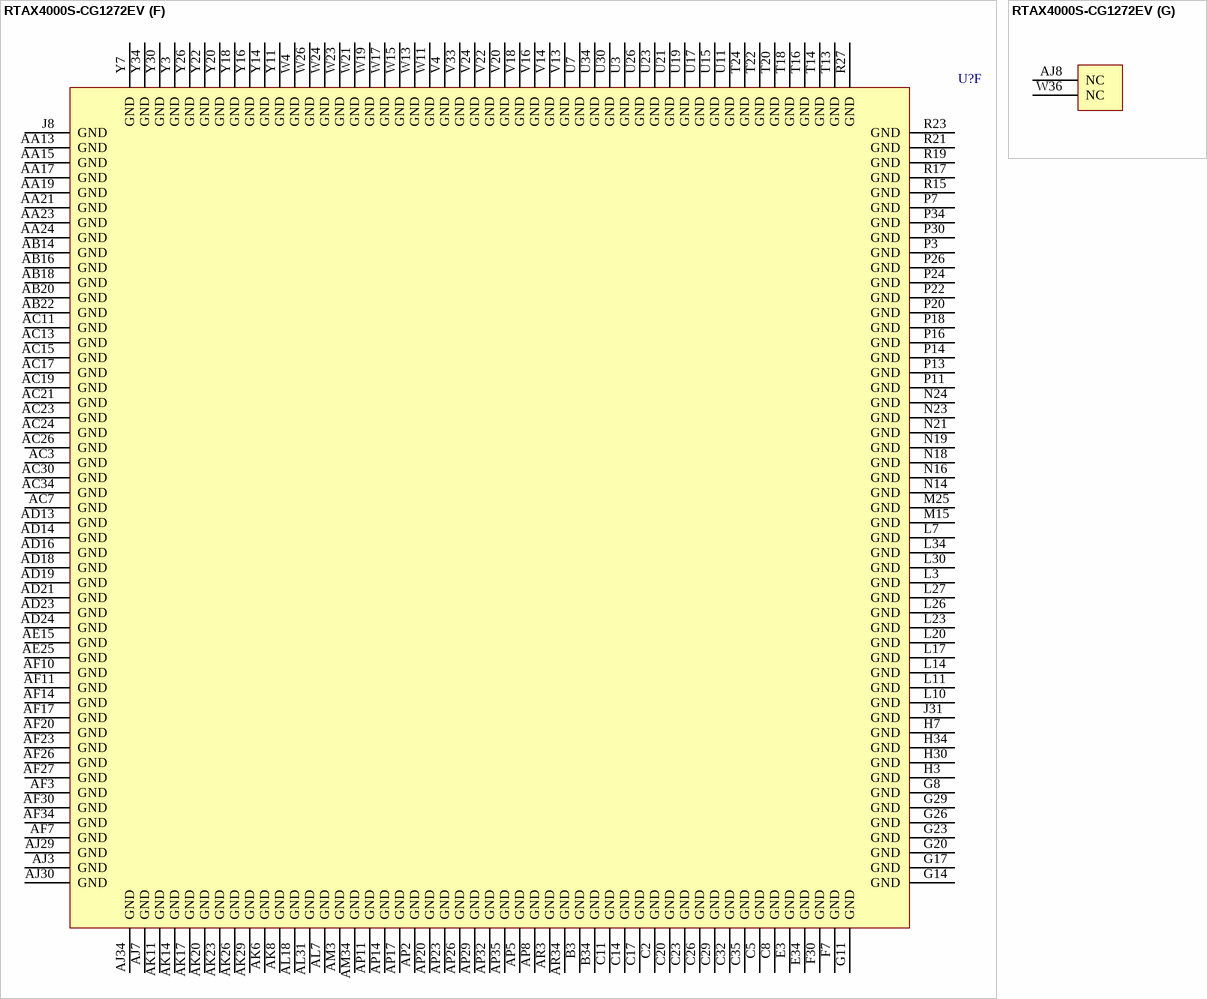
[diagram p316: symbol RTAX4000S-CG1272EV]